# Altium schematic symbol library Res_Panasonic_453Ohm_ERJ-3EKF4530V.SchLib: 1 symbol
Pins are listed as number, name and electrical type; pins without a type are passive.

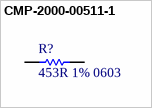
[diagram p0: symbol CMP-2000-00511-1]

## CMP-2000-00511-1
designator R?, comment 453R 1% 0603
ERJ-3EKF4530V; Manufacturer: Panasonic; Part Number: ERJ-3EKF4530V
footprint RESC1608X55X30NL15T15 (Chip Resistor, 2-Leads, Body 1.60x0.80mm, IPC Medium Density)
footprint RESC1608X55X30ML15T15 (Chip Resistor, 2-Leads, Body 1.60x0.80mm, IPC Low Density)
footprint RESC1608X55X30LL15T15 (Chip Resistor, 2-Leads, Body 1.60x0.80mm, IPC High Density)
pins: 1, 2
1 alternate drawing of the same symbol